# Altium schematic symbol library Tactile buttons.SchLib: 14 symbols
Pins are listed as number, name and electrical type; pins without a type are passive.

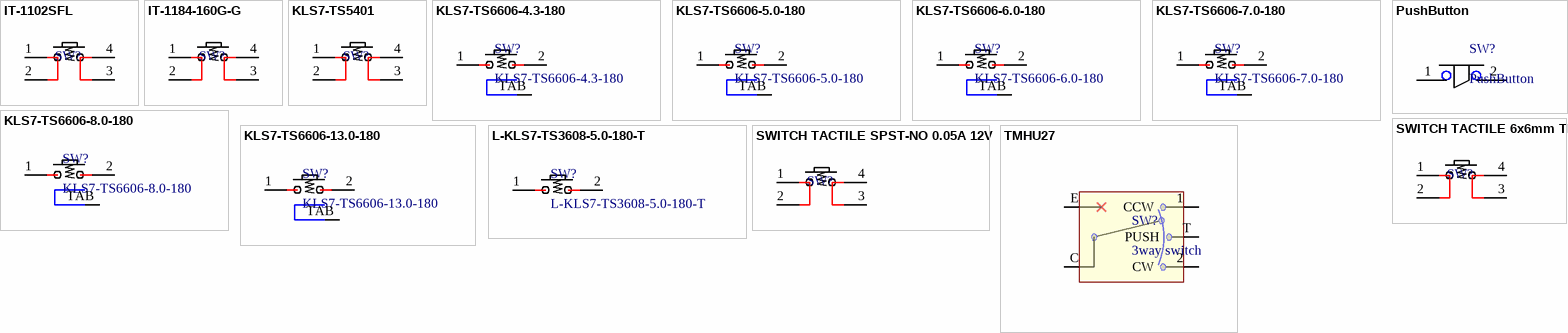
[diagram p0: symbols IT-1102SFL to TMHU27]

## IT-1102SFL
designator SW?  (value not drawn)
SWITCH TACTILE SPST-NO 0.05A 12V
footprint SWITCH TACTILE 6x6mm SMD (Tactile switch SMD)
pins: 1, 2, 3, 4

## IT-1184-160G-G
designator SW?  (value not drawn)
SWITCH TACTILE SMD 3.4x3.4x1.5SPST-NO 0.05A 12V
footprint IT-1184-160G-G (SWITCH TACTILE SMD 3.4x3.4x1.5SPST-NO 0.05A 12V)
pins: 1, 2, 3, 4

## KLS7-TS5401
designator SW?
SWITCH TACTILE SPST-NO 0.05A 12V
footprint KLS7-TS5401 (4x5 Tact Switch Right Angle KLS Electronics)
pins: 1, 2, 3, 4

## KLS7-TS6606-4.3-180
designator SW?
Tactile Button Right Angle Through Hole
footprint KLS7-TS6606-4.3-180
pins: 1, 2, TAB

## KLS7-TS6606-5.0-180
designator SW?
Tactile Button Right Angle Through Hole
footprint KLS7-TS6606-5.0-180
pins: 1, 2, TAB

## KLS7-TS6606-6.0-180
designator SW?
Tactile Button Right Angle Through Hole
footprint KLS7-TS6606-6.0-180
pins: 1, 2, TAB

## KLS7-TS6606-7.0-180
designator SW?
Tactile Button Right Angle Through Hole
footprint KLS7-TS6606-7.0-180
pins: 1, 2, TAB

## KLS7-TS6606-8.0-180
designator SW?
Tactile Button Right Angle Through Hole
footprint KLS7-TS6606-8.0-180
pins: 1, 2, TAB

## KLS7-TS6606-13.0-180
designator SW?
Tactile Button Right Angle Through Hole
footprint KLS7-TS6606-13.0-180
pins: 1, 2, TAB

## L-KLS7-TS3608-5.0-180-T
designator SW?
2 pads SMD Tactile switch
footprint KLS7-TS3608 (3x6 Tact Switch Series KLS Electronics)
pins: 1, 2 3

## PushButton
designator SW?
Mechanical push button (0 / 1); Datasheet: http://lib.chipdip.ru/937/DOC000937812.pdf
footprint SWT-34 SMT (Tactile switch SMT)
pins: 1, 2

## SWITCH TACTILE 6x6mm TH
designator SW?  (value not drawn)
footprint SWITCH TACTILE 6x6mm TH (Tactile switch TH)
pins: 1, 2, 3, 4

## SWITCH TACTILE SPST-NO 0.05A 12V
designator SW?  (value not drawn)
4 pads SMD Tactile switch; Supplier 1: Digi-Key; Supplier 2: Digi-Key; Supplier 3: Digi-Key; Supplier 4: Digi-Key; Supplier 5: Digi-Key; Supplier Part Number 1: CKN9085DKR-ND; Supplier Part Number 2: CKN9084DKR-ND; Supplier Part Number 3: CKN9088DKR-ND; Supplier Part Number 4: CKN9112DKR-ND; Supplier Part Number 5: CKN9087DKR-ND
footprint SWITCH TACTILE 6x6mm SMD (Tactile switch SMD)
pins: 1, 2, 3, 4

## TMHU27
designator SW?, comment 3way switch
footprint TMHU27 (3 way tactile switch)
pins: 1 CCW, 2 CW, C, E, T PUSH